# Altium integrated library con-bosch.IntLib: 1 symbol
Pins are listed as number, name and electrical type; pins without a type are passive.

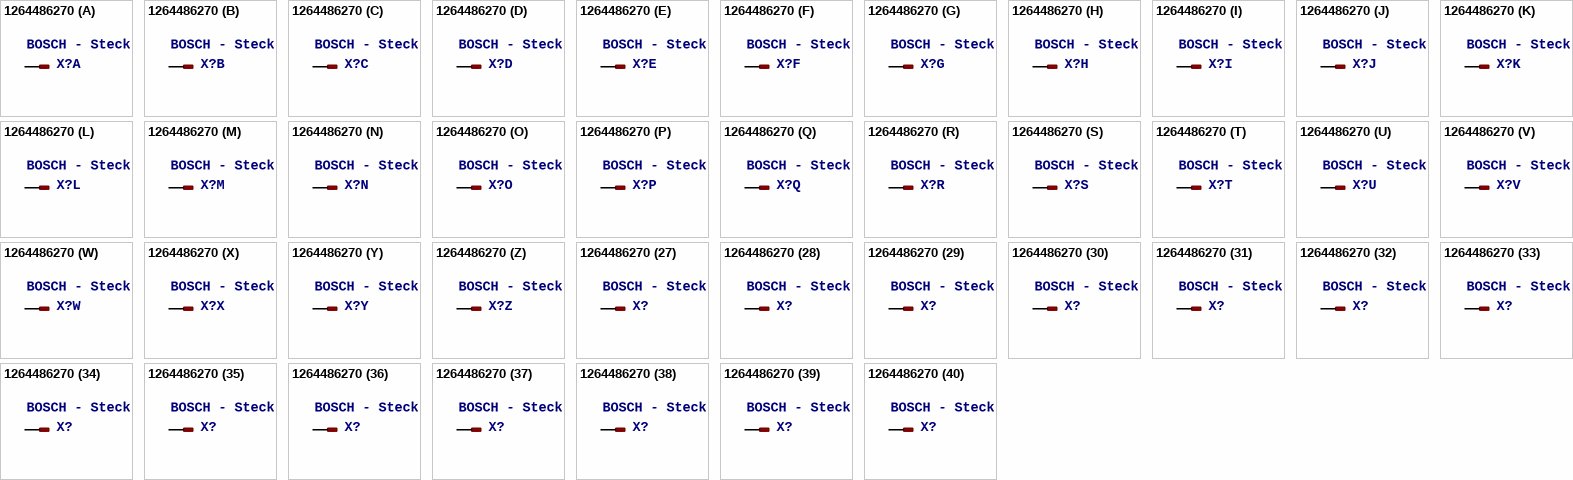
[diagram p0: symbol 1264486270]

## 1264486270
designator X?, comment BOSCH - Steckerleiste fahrzeugorientiert - 154 pol.   Source: DRW_1264486270_000_03_1.pdf
OC_FARNELL: unknown; OC_NEWARK: unknown
footprint 1264486270
part A pins: A1 1
part B pins: A2 1
part C pins: A3 1
part D pins: A4 1
part E pins: A5 1
part F pins: A6 1
part G pins: A7 1
part H pins: A8 1
part I pins: A9 1
part J pins: A10 1
part K pins: A11 1
part L pins: A12 1
part M pins: A13 1
part N pins: A14 1
part O pins: A15 1
part P pins: A16 1
part Q pins: A17 1
part R pins: A18 1
part S pins: A19 1
part T pins: A20 1
part U pins: A21 1
part V pins: A22 1
part W pins: A23 1
part X pins: A24 1
part Y pins: A25 1
part Z pins: A26 1
part 27 pins: A27 1
part 28 pins: A28 1
part 29 pins: A29 1
part 30 pins: A30 1
part 31 pins: A31 1
part 32 pins: A32 1
part 33 pins: A33 1
part 34 pins: A34 1
part 35 pins: A35 1
part 36 pins: A36 1
part 37 pins: A37 1
part 38 pins: A38 1
part 39 pins: A39 1
part 40 pins: A40 1
part 41 pins: A41 1
part 42 pins: A42 1
part 43 pins: A43 1
part 44 pins: A44 1
part 45 pins: A45 1
part 46 pins: A46 1
part 47 pins: A47 1
part 48 pins: A48 1
part 49 pins: A49 1
part 50 pins: A50 1
part 51 pins: A51 1
part 52 pins: A52 1
part 53 pins: A53 1
part 54 pins: A54 1
part 55 pins: A55 1
part 56 pins: A56 1
part 57 pins: A57 1
part 58 pins: A58 1
part 59 pins: A59 1
part 60 pins: A60 1
part 61 pins: B1 1
part 62 pins: B2 1
part 63 pins: B3 1
part 64 pins: B4 1
part 65 pins: B5 1
part 66 pins: B6 1
part 67 pins: B7 1
part 68 pins: B8 1
part 69 pins: B9 1
part 70 pins: B10 1
part 71 pins: B11 1
part 72 pins: B12 1
part 73 pins: B13 1
part 74 pins: B14 1
part 75 pins: B15 1
part 76 pins: B16 1
part 77 pins: B17 1
part 78 pins: B18 1
part 79 pins: B19 1
part 80 pins: B20 1
part 81 pins: B21 1
part 82 pins: B22 1
part 83 pins: B23 1
part 84 pins: B24 1
part 85 pins: B25 1
part 86 pins: B26 1
part 87 pins: B27 1
part 88 pins: B28 1
part 89 pins: B29 1
part 90 pins: B30 1
part 91 pins: B31 1
part 92 pins: B32 1
part 93 pins: B33 1
part 94 pins: B34 1
part 95 pins: B35 1
part 96 pins: B36 1
part 97 pins: B37 1
part 98 pins: B38 1
part 99 pins: B39 1
part 100 pins: B40 1
part 101 pins: B41 1
part 102 pins: B42 1
part 103 pins: B43 1
part 104 pins: B44 1
part 105 pins: B45 1
part 106 pins: B46 1
part 107 pins: B47 1
part 108 pins: B48 1
part 109 pins: B49 1
part 110 pins: B50 1
part 111 pins: B51 1
part 112 pins: B52 1
part 113 pins: B53 1
part 114 pins: B54 1
part 115 pins: B55 1
part 116 pins: B56 1
part 117 pins: B57 1
part 118 pins: B58 1
part 119 pins: B59 1
part 120 pins: B60 1
part 121 pins: B61 1
part 122 pins: B62 1
part 123 pins: B63 1
part 124 pins: B64 1
part 125 pins: B65 1
part 126 pins: B66 1
part 127 pins: B67 1
part 128 pins: B68 1
part 129 pins: B69 1
part 130 pins: B70 1
part 131 pins: B71 1
part 132 pins: B72 1
part 133 pins: B73 1
part 134 pins: B74 1
part 135 pins: B75 1
part 136 pins: B76 1
part 137 pins: B77 1
part 138 pins: B78 1
part 139 pins: B79 1
part 140 pins: B80 1
part 141 pins: B81 1
part 142 pins: B82 1
part 143 pins: B83 1
part 144 pins: B84 1
part 145 pins: B85 1
part 146 pins: B86 1
part 147 pins: B87 1
part 148 pins: B88 1
part 149 pins: B89 1
part 150 pins: B90 1
part 151 pins: B91 1
part 152 pins: B92 1
part 153 pins: B93 1
part 154 pins: B94 1